# Altium footprint library PCB_Components.PcbLib: 38 footprints (part 3 of 3)
Each footprint in its own frame and in the unit in brackets; x right, y up, seen from the top. Pads: shape width x height; smd on the part's side, far side on the other; paste and mask are expansions set on the pad; w line width, h text height; cw(c..) or ccw(c..) is an arc to the next point about the centre after c.
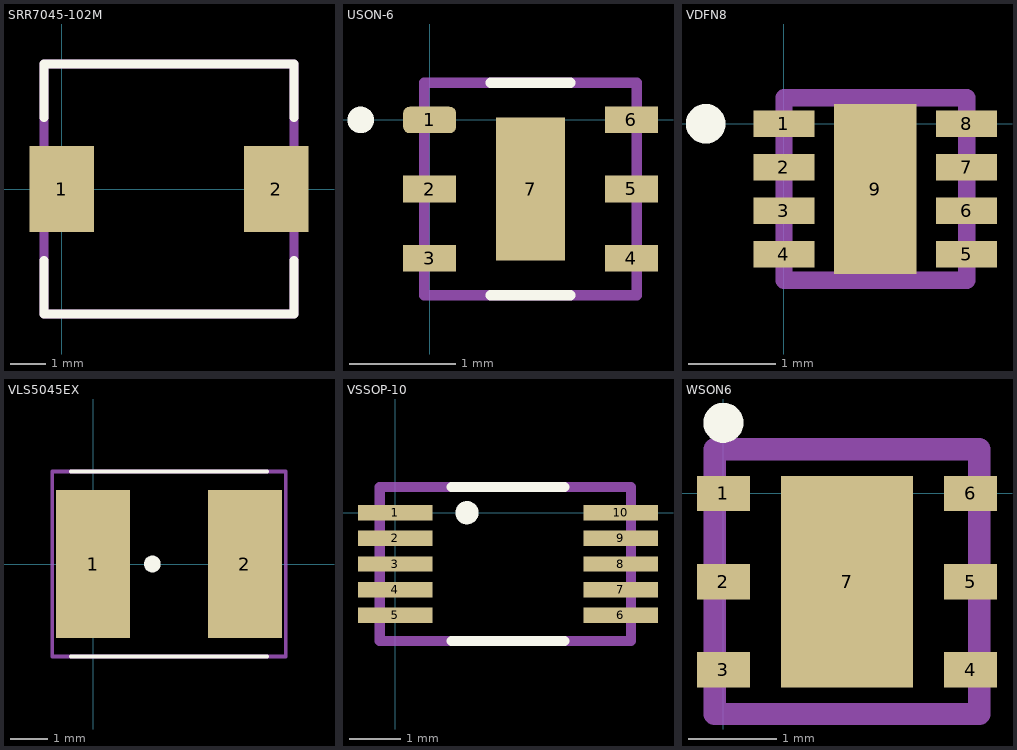
[diagram p2: the footprints below, top view; thin cyan lines are the x and y axes]

## SRR7045-102M [mm]
pads (2):
  rect 1.8x2.4 smd mask+0.05: 1(0,0) 2(6,0)
Top Overlay:
  lines w0.254: -0.5,-2 -0.5,-3.5 6.5,-3.5 6.5,-2 ; -0.5,2 -0.5,3.5 6.5,3.5 6.5,2
RefDes Top:
  lines w0.254: -0.5,-3.5 6.5,-3.5 6.5,3.5 -0.5,3.5 -0.5,-3.5
Component out-line:
  lines w0.254: -0.5,-3.5 6.5,-3.5 6.5,3.5 -0.5,3.5 -0.5,-3.5
3D body "SRR7045 v2.step": height 4.5, standoff 0, extent -0.5,-3.5 6.5,3.5

## USON-6 [mm]
pads (7):
  rrect50% 0.5x0.25 smd mask+0.05: 1(0,0)
  rect 0.5x0.25 smd mask+0.05: 2(0,-0.65) 3(0,-1.3) 4(1.9,-1.3) 5(1.9,-0.65) 6(1.9,0)
  rect 0.65x1.35 smd mask+0.05: 7(0.95,-0.65)
Top Overlay:
  circle w0.2: c-0.65,0 r0.025
  lines w0.1: 0.575,-1.65 1.325,-1.65 ; 0.575,0.35 1.325,0.35
RefDes Top:
  lines w0.1: -0.05,-1.65 1.95,-1.65 1.95,0.35 -0.05,0.35 -0.05,-1.65
Component out-line:
  lines w0.1: -0.05,-1.65 1.95,-1.65 1.95,0.35 -0.05,0.35 -0.05,-1.65
3D body "DNP0006A.stp": height 0.63, standoff 0, extent -0.05,-1.65 1.95,0.35

## VDFN8 [mm] "2x2mm"
pads (9):
  rect 0.7x0.3 smd mask+0.05: 1(0,0) 2(0,-0.5) 3(0,-1) 4(0,-1.5) 5(2.1,-1.5) 6(2.1,-1) 7(2.1,-0.5) 8(2.1,0)
  rect 0.95x1.95 smd mask+0.05: 9(1.05,-0.75)
Top Overlay:
  circle w0.254: c-0.9,0 r0.1
RefDes Top:
  lines w0.2: 0,-1.8 2.1,-1.8 2.1,0.3 0,0.3 0,-1.8
Component out-line:
  lines w0.2: 0,-1.8 2.1,-1.8 2.1,0.3 0,0.3 0,-1.8
3D body "User Library-DFN8-2x2.step": height 0.95, standoff -0.05, extent 0.04,-1.75 2.06,0.25

## VLS5045EX [mm] "Coil 5mm x 5,3mm x 4,5mm"
pads (2):
  rect 2x4 smd mask+0.05: 1(0,0) 2(4.1,0)
Top Overlay:
  circle w0.254: c1.6,0 r0.1
  lines w0.1: -0.6,-2.5 4.7,-2.5 ; -0.6,2.5 2.2,2.5 4.7,2.5
RefDes Top:
  lines w0.1: -1.1,-2.5 5.2,-2.5 5.2,2.5 -1.1,2.5 -1.1,-2.5
Component out-line:
  lines w0.1: -1.1,-2.5 5.2,-2.5 5.2,2.5 -1.1,2.5 -1.1,-2.5
3D body "VLS5045EX v1.step": height 4.5, standoff 0, extent -0.6,-2.5 4.7,2.5

## VSSOP-10 [mm]
pads (10):
  rect 1.45x0.3 smd mask+0.05: 1(0,0) 2(0,-0.5) 3(0,-1) 4(0,-1.5) 5(0,-2) 6(4.4,-2) 7(4.4,-1.5) 8(4.4,-1) 9(4.4,-0.5) 10(4.4,0)
Top Overlay:
  circle w0.254: c1.4,0 r0.1
  lines w0.2: 1.1,-2.5 3.3,-2.5 ; 1.1,0.5 3.3,0.5
RefDes Top:
  lines w0.2: -0.3,-2.5 4.6,-2.5 4.6,0.5 -0.3,0.5 -0.3,-2.5
Component out-line:
  lines w0.2: -0.3,-2.5 4.6,-2.5 4.6,0.5 -0.3,0.5 -0.3,-2.5
3D body "User Library-DGS0010A.STEP": height 1.1, standoff 0, extent -0.3,-2.5 4.625,0.5

## WSON6 [mm]
pads (7):
  rect 0.6x0.4 smd mask+0.05: 1(0,0) 2(0,-1) 3(0,-2) 4(2.8,-2) 5(2.8,-1) 6(2.8,0)
  rect 1.5x2.4 smd mask+0.05: 7(1.4,-1)
Top Overlay:
  circle w0.254: c0,0.8 r0.1
RefDes Top:
  lines w0.254: -0.1,-2.5 2.9,-2.5 2.9,0.5 -0.1,0.5 -0.1,-2.5
Component out-line:
  lines w0.254: -0.1,-2.5 2.9,-2.5 2.9,0.5 -0.1,0.5 -0.1,-2.5
3D body "User Library-DMB0006A-1.STEP": height 0.8, standoff 0, extent -0.1,-2.5 2.9,0.5